# Altium footprint library C-1206.PcbLib: 1 footprints
Each footprint in its own frame and in the unit in brackets; x right, y up, seen from the top. Pads: shape width x height; smd on the part's side, far side on the other; paste and mask are expansions set on the pad; w line width, h text height; cw(c..) or ccw(c..) is an arc to the next point about the centre after c.
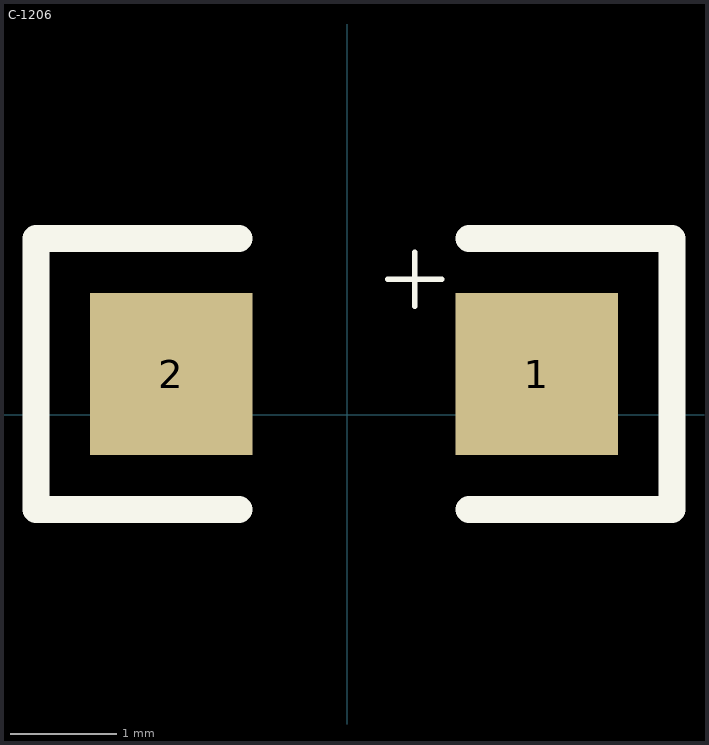
[diagram p0: the footprint, top view; thin cyan lines are the x and y axes]

## C-1206 [mil] "C-1206"
pads (2):
  rect 60x60 smd: 1(70,15) 2(-65,15)
Top Overlay:
  lines w2: 15,50 35,50 ; 25,40 25,60
  lines w10: -40,-35 -115,-35 -115,65 -40,65 ; 45,-35 120,-35 120,65 45,65